# EAGLE library part MICROSD-SLOT (library cTechnologies_connectors)
This is extra powerful microSD slot from allegro. In Allegro you can find a lot of interesting eletronic elements without documentation! Then, the adventure starts and you must measure and draw element in Eagle or other soft. Great fun!
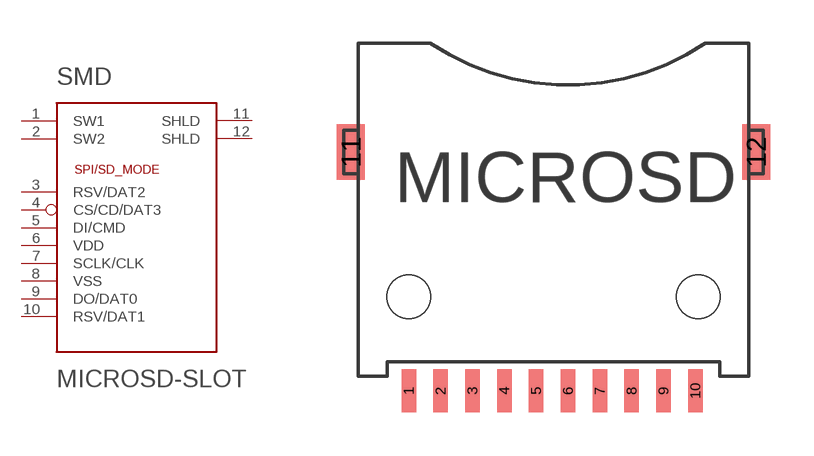
[diagram p0: symbol with the pads of MICROSD_SMD-PCKG; footprint MICROSD_SMD-PCKG]

Designator prefix SMD

## MICROSD-SLOT  [MICROSD_SMD-PCKG]
1  SW1
2  SW2
3  RSV/DAT2
4  CS/CD/DAT3
5  DI/CMD
6  VDD  sup
7  SCLK/CLK  in
8  VSS  sup
9  DO/DAT0
10  RSV/DAT1
11  SHLD  pwr
12  SHLD  pwr

## Footprint MICROSD_SMD-PCKG (pad centres in mm)
smd 0.5 x 1.5: 1 1.75,-0.5; 2 2.85,-0.5; 3 3.95,-0.5; 4 5.05,-0.5; 5 6.15,-0.5; 6 7.25,-0.5; 7 8.35,-0.5; 8 9.45,-0.5; 9 10.55,-0.5; 10 11.65,-0.5
smd 0.965 x 1.93: 11 -0.25,7.75; 12 13.75,7.75
hole 1.5 at 1.75,2.75
hole 1.5 at 11.75,2.75